# EAGLE library part 6BW7 (library tubes_pmillett)
Pentode, base 9AQ (EF184, etc.)
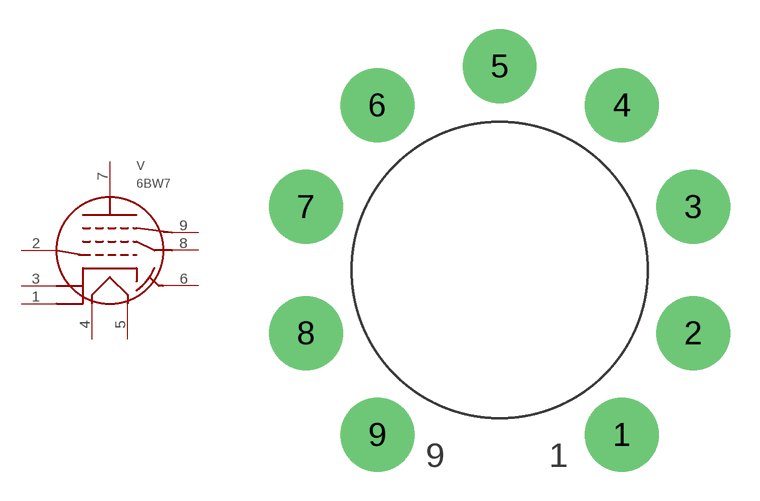
[diagram p88: symbol with the pads of NOVAL_PCB; footprint NOVAL_PCB]

Designator prefix V

## 6BW7  [NOVAL_PCB]
1  1  pas
2  2  pas
3  3  pas
4  4  pas
5  5  pas
6  6  pas
7  7  pas
8  8  pas
9  9  pas

## Footprint NOVAL_PCB (pad centres in mm)
TUBE SOCKET, NOVAL PCB
drill 1.93 pad 3.81: 1 6.299,-8.484; 2 9.982,-3.251; 3 9.982,3.251; 4 6.299,8.484; 5 0,10.49; 6 -6.299,8.484; 7 -9.982,3.251; 8 -9.982,-3.251; 9 -6.299,-8.484